# Altium footprint library Symbols.PcbLib: 3 footprints
Each footprint in its own frame and in the unit in brackets; x right, y up, seen from the top. Pads: shape width x height; smd on the part's side, far side on the other; paste and mask are expansions set on the pad; w line width, h text height; cw(c..) or ccw(c..) is an arc to the next point about the centre after c.
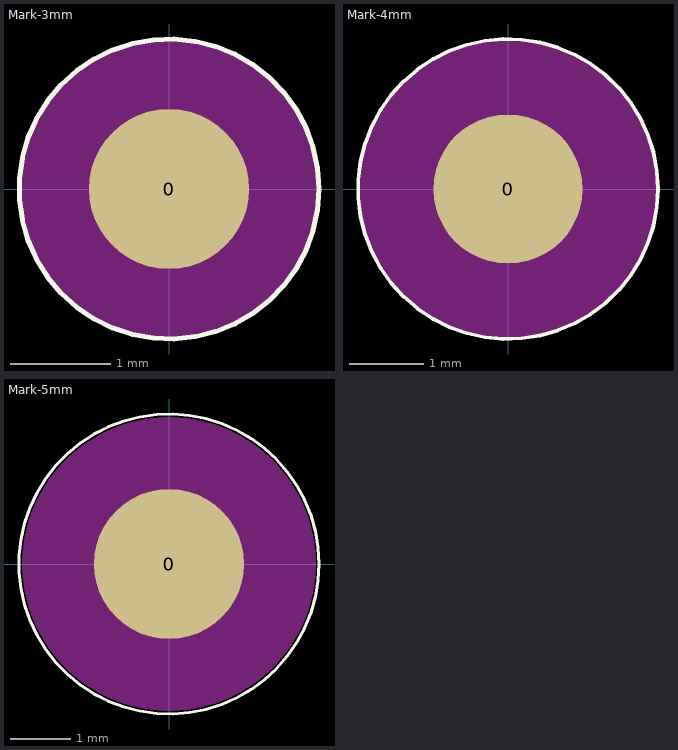
[diagram p0: the footprints below, top view; thin cyan lines are the x and y axes]

## Mark-3mm [mm]
pads (1):
  round 1.6 smd paste-2: 0(0,0)
Top Overlay:
  circle w0.05: c0,0 r1.5
Top Solder:
  circle w2: c0,0 r0.5
Keep-Out Layer:
  circle w2: c0,0 r0.5

## Mark-4mm [mm]
pads (1):
  round 2 smd paste-2: 0(0,0)
Top Overlay:
  circle w0.05: c0,0 r2.008
Top Solder:
  circle w2: c0,0 r1
Keep-Out Layer:
  circle w2: c0,0 r1

## Mark-5mm [mm]
pads (1):
  round 2.5 smd paste-2.5: 0(0,0)
Top Overlay:
  circle w0.05: c0,0 r2.5
Top Solder:
  circle w2.5: c0,0 r1.2
Keep-Out Layer:
  circle w2.5: c0,0 r1.2